# Altium schematic symbol library max487.SchLib: 1 symbol
Pins are listed as number, name and electrical type; pins without a type are passive.

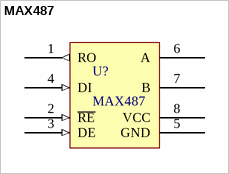
[diagram p0: symbol MAX487]

## MAX487
designator U?
485通信转换芯片
footprint MAX487 (485通信转换芯片)
pins: 1 RO (out), 2 ~{RE} (in), 3 DE (in), 4 DI (in), 5 GND (power), 6 A, 7 B, 8 VCC (power)